# Altium footprint library streetbot.PcbLib: 55 footprints (part 2 of 4)
Each footprint in its own frame and in the unit in brackets; x right, y up, seen from the top. Pads: shape width x height; smd on the part's side, far side on the other; paste and mask are expansions set on the pad; w line width, h text height; cw(c..) or ccw(c..) is an arc to the next point about the centre after c.
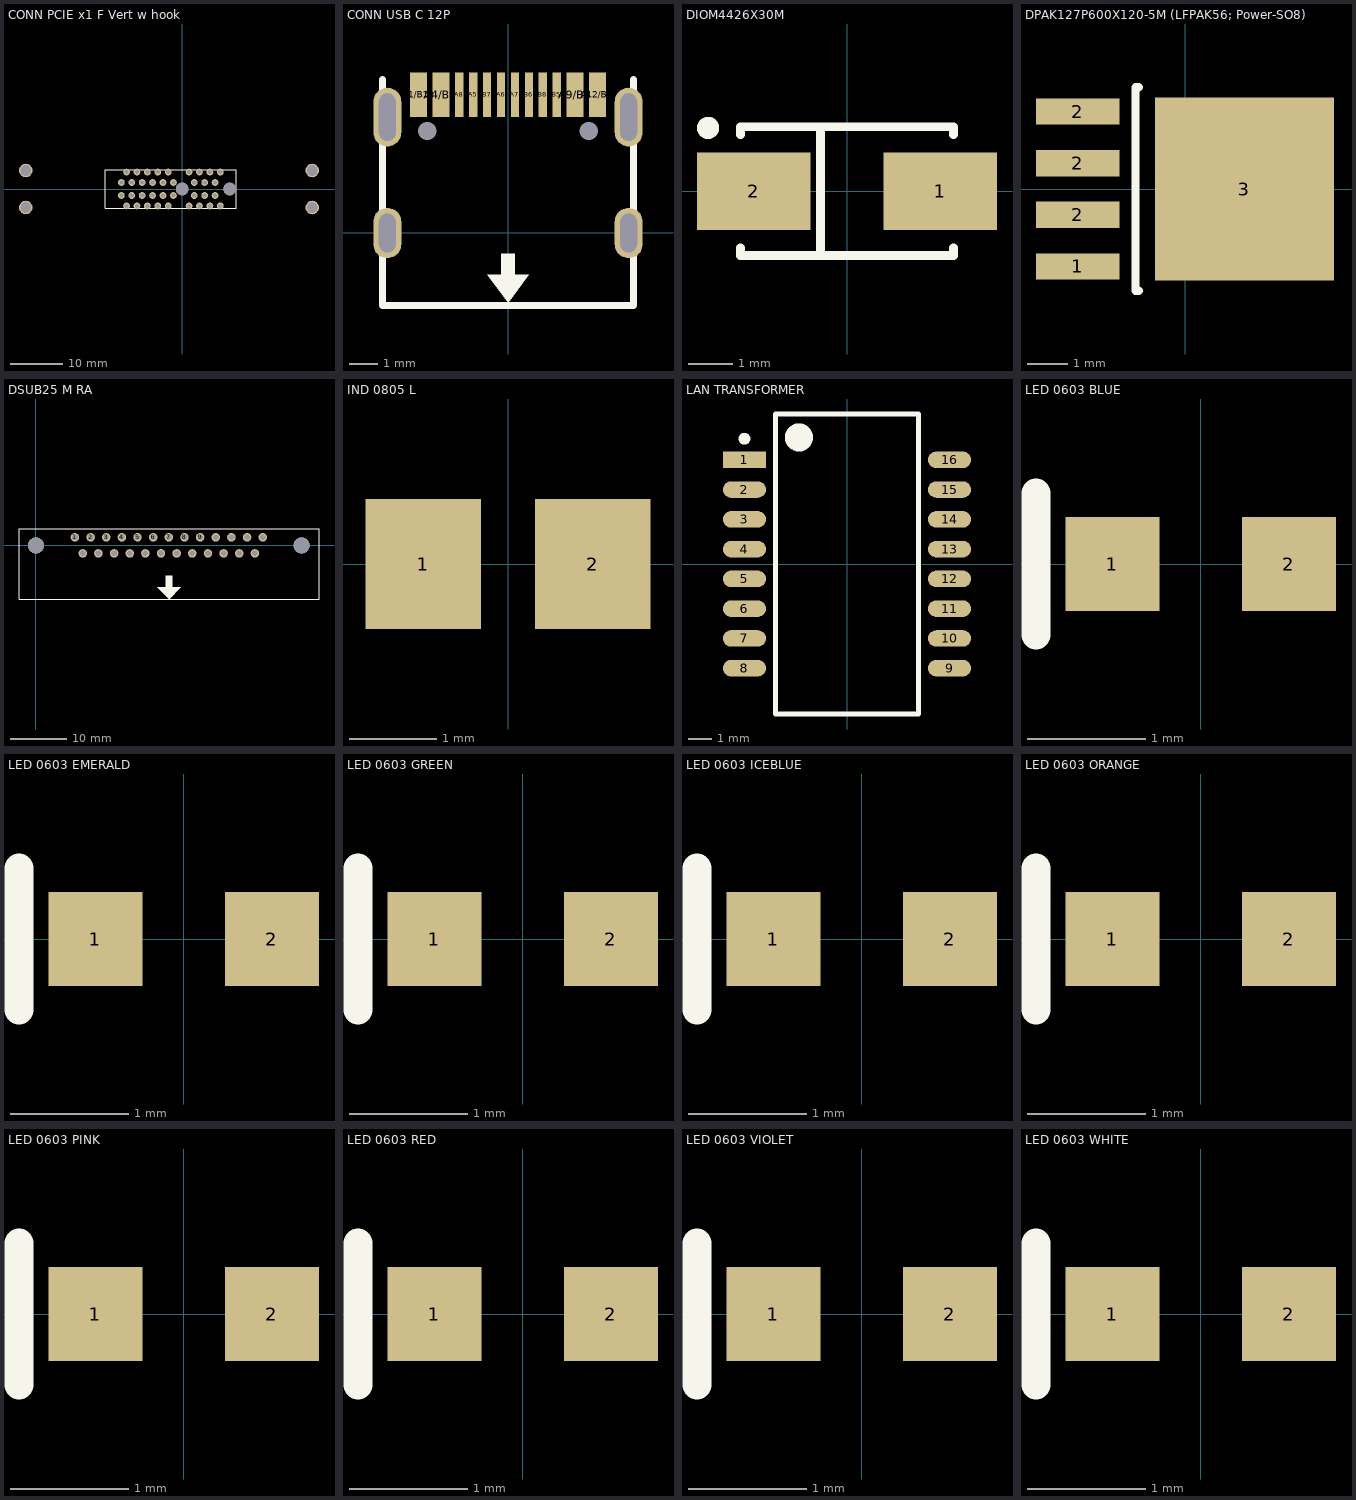
[diagram p1: the footprints below, top view; thin cyan lines are the x and y axes]

## CONN PCIE x1 F Vert w hook [mm]
pads (42):
  round 1.3 hole 0.8: A1(-11.65,1.25) A2(-10.65,3.25) A3(-9.65,1.25) A4(-8.65,3.25) A5(-7.65,1.25) A6(-6.65,3.25) A7(-5.65,1.25) A8(-4.65,3.25) A9(-3.65,1.25) A10(-2.65,3.25) A11(-1.65,1.25) A12(1.35,3.25) A13(2.35,1.25) A14(3.35,3.25) A15(4.35,1.25) A16(5.35,3.25) A17(6.35,1.25) A18(7.35,3.25) B1(-11.65,-1.25) B2(-10.65,-3.25) B3(-9.65,-1.25) B4(-8.65,-3.25) B5(-7.65,-1.25) B6(-6.65,-3.25) B7(-5.65,-1.25) B8(-4.65,-3.25) B9(-3.65,-1.25) B10(-2.65,-3.25) B11(-1.65,-1.25) B12(1.35,-3.25) B13(2.35,-1.25) B14(3.35,-3.25) B15(4.35,-1.25) B16(5.35,-3.25) B17(6.35,-1.25) B18(7.35,-3.25)
  round 2.6 hole 2.08: ""(-30,-3.555) ""(-30,3.555) ""(25,-3.555) ""(25,3.555)
  round 2.4 hole 2.4 unplated: ""(0,0) ""(9.15,0)
Top Overlay:
  lines w0.2: -14.7,-3.7 -14.7,3.7 10.4,3.7 10.4,-3.7 -14.7,-3.7
3D body "TE PCIe Express x1 (2.3mm Pins).STEP": height 11.01, standoff -4.39, extent -14.65,-5.1 10.35,3.7

## CONN USB C 12P [mm]
pads (18):
  rect 0.6x1.6 smd: A1/B12(-3.2,4.95) A4/B9(-2.4,4.95) A9/B4(2.4,4.95) A12/B1(3.2,4.95)
  rect 0.3x1.6 smd: A5(-1.25,4.95) A6(-0.25,4.95) A7(0.25,4.95) A8(-1.75,4.95) B5(1.75,4.95) B6(0.75,4.95) B7(-0.75,4.95) B8(1.25,4.95)
  oval 1x1.8 hole 0.6 slot 1.4 at 90 deg: ""(-4.32,0) ""(4.32,0)
  oval 1x2.1 hole 0.6 slot 1.7 at 90 deg: ""(-4.32,4.15) ""(4.32,4.15)
  round 0 hole 0.65 unplated: ""(-2.89,3.65) ""(2.89,3.65)
Top Overlay:
  region: 0,-2.5 -0.75,-1.5 -0.25,-1.5 -0.25,-0.75 0.25,-0.75 0.25,-1.5 0.75,-1.5
  lines w0.25: -4.5,5.5 -4.5,-2.6 4.5,-2.6 4.5,5.5
3D body "USB Type C Port (SMD Type).STEP": height 3.22, standoff -0.98, extent -4.47,-2.6 4.47,5.3

## DIOM4426X30M [mm] "Molded Diode, 2-Leads, Body 4.37x2.62mm, IPC Low Density"
height 2.95
pads (2):
  rect 2.55x1.75 smd: 1(2.1,0) 2(-2.1,0)
Top Overlay:
  circle w0.25: c-3.125,1.425 r0.125
  lines w0.2: -2.4,-1.275 -2.4,-1.45 2.4,-1.45 2.4,-1.275 ; -2.4,1.275 -2.4,1.45 2.4,1.45 2.4,1.275 ; -0.6,-1.4 -0.6,1.4
3D body "DIOM4426X30M.step": height 2.95, standoff 0, extent -2.595,-1.42 2.595,1.42

## DPAK127P600X120-5M (LFPAK56; Power-SO8) [mm] "TO, 5-Pads, Body 5.15x5.86mm (max), IPC Low Density"
height 1.2
pads (5):
  rect 2.05x0.65 smd: 1(-2.65,-1.905) 2(-2.65,-0.635) 2(-2.65,0.635) 2(-2.65,1.905)
  rect 4.4x4.5 smd: 3(1.45,0)
Top Overlay:
  lines w0.2: -1.15,-2.5 -1.225,-2.5 -1.225,2.5 -1.15,2.5
3D body "DPAK127P600X120-5M.step": height 1.35, standoff 0, extent -2.95,-2.5 3.05,2.5

## DSUB25 M RA [mm]
pads (27):
  round 1.5 hole 1: 1(6.9,1.42) 2(9.67,1.42) 3(12.44,1.42) 4(15.21,1.42) 5(17.98,1.42) 6(20.75,1.42) 7(23.52,1.42) 8(26.29,1.42) 9(29.06,1.42) 10(31.83,1.42) 11(34.6,1.42) 12(37.37,1.42) 13(40.14,1.42) 14(8.285,-1.42) 15(11.055,-1.42) 16(13.825,-1.42) 17(16.595,-1.42) 18(19.365,-1.42) 19(22.135,-1.42) 20(24.905,-1.42) 21(27.675,-1.42) 22(30.445,-1.42) 23(33.215,-1.42) 24(35.985,-1.42) 25(38.755,-1.42)
  round 2.84 hole 2.84 unplated: ""(0,0) ""(47.04,0)
Top Overlay:
  region: 23.55,-9.5 21.5,-7.45 21.5,-7.4 23,-7.4 23,-5.4 24.1,-5.4 24.1,-7.4 25.6,-7.4
  lines w0.2: -3,-9.5 50.1,-9.5 50.1,2.9 -3,2.9 -3,-9.5
3D body "sD25P13B4PA00LF.stp": height 13.46, standoff -3.69, extent -3,-17.4 50.04,3.05

## IND 0805 L [mm] "Chip Inductor, 2-Leads, Body 2.00x1.25mm, IPC Low Density"
height 1.35
pads (2):
  rect 1.32x1.49 smd: 1(-0.97,0) 2(0.97,0)
3D body "INDC2012X14M.step": height 1.35, standoff 0, extent -1.05,-0.675 1.05,0.675

## LAN TRANSFORMER [mm] "SOP, 16-Leads, Body 12.80x6.90mm, Pitch 1.27mm, IPC Low Density"
height 5.65
pads (16):
  rect 1.85x0.7 smd: 1(-4.375,4.445)
  oval 1.85x0.7 smd: 2(-4.375,3.175) 3(-4.375,1.905) 4(-4.375,0.635) 5(-4.375,-0.635) 6(-4.375,-1.905) 7(-4.375,-3.175) 8(-4.375,-4.445) 9(4.375,-4.445) 10(4.375,-3.175) 11(4.375,-1.905) 12(4.375,-0.635) 13(4.375,0.635) 14(4.375,1.905) 15(4.375,3.175) 16(4.375,4.445)
Top Overlay:
  circle w0.25: c-4.375,5.345 r0.125
  circle w0.6: c-2.05,5.4 r0.3
  lines w0.2: -3.05,-6.4 -3.05,6.4 3.05,6.4 3.05,-6.4 -3.05,-6.4
3D body "SOP127P930X565-16M.step": height 5.65, standoff 0, extent -4.65,-6.4 4.65,6.4

## LED 0603 BLUE [mm]
pads (2):
  rect 0.8x0.8 smd: 1(-0.75,0) 2(0.75,0)
Top Overlay:
  lines w0.25: -1.4,-0.6 -1.4,0.6
3D body "LED 0603 single color blue v1.step": height 0.7, standoff -0.01, extent -0.8,-0.394 0.8,0.394

## LED 0603 EMERALD [mm]
pads (2):
  rect 0.8x0.8 smd: 1(-0.75,0) 2(0.75,0)
Top Overlay:
  lines w0.25: -1.4,-0.6 -1.4,0.6
3D body "LED 0603 single color emerald v2.step": height 0.7, standoff -0.01, extent -0.8,-0.394 0.8,0.394

## LED 0603 GREEN [mm]
pads (2):
  rect 0.8x0.8 smd: 1(-0.75,0) 2(0.75,0)
Top Overlay:
  lines w0.25: -1.4,-0.6 -1.4,0.6
3D body "LED 0603 single color green v2.step": height 0.7, standoff -0.01, extent -0.8,-0.394 0.8,0.394

## LED 0603 ICEBLUE [mm]
pads (2):
  rect 0.8x0.8 smd: 1(-0.75,0) 2(0.75,0)
Top Overlay:
  lines w0.25: -1.4,-0.6 -1.4,0.6
3D body "LED 0603 single color ice blue v1.step": height 0.7, standoff -0.01, extent -0.8,-0.394 0.8,0.394

## LED 0603 ORANGE [mm]
pads (2):
  rect 0.8x0.8 smd: 1(-0.75,0) 2(0.75,0)
Top Overlay:
  lines w0.25: -1.4,-0.6 -1.4,0.6
3D body "LED 0603 single color orange v1.step": height 0.7, standoff -0.01, extent -0.8,-0.394 0.8,0.394

## LED 0603 PINK [mm]
pads (2):
  rect 0.8x0.8 smd: 1(-0.75,0) 2(0.75,0)
Top Overlay:
  lines w0.25: -1.4,-0.6 -1.4,0.6
3D body "LED 0603 single color pink v1.step": height 0.7, standoff -0.01, extent -0.8,-0.394 0.8,0.394

## LED 0603 RED [mm]
pads (2):
  rect 0.8x0.8 smd: 1(-0.75,0) 2(0.75,0)
Top Overlay:
  lines w0.25: -1.4,-0.6 -1.4,0.6
3D body "LED 0603 single color red v1.step": height 0.7, standoff -0.01, extent -0.8,-0.394 0.8,0.394

## LED 0603 VIOLET [mm]
pads (2):
  rect 0.8x0.8 smd: 1(-0.75,0) 2(0.75,0)
Top Overlay:
  lines w0.25: -1.4,-0.6 -1.4,0.6
3D body "LED 0603 single color violet v2.step": height 0.7, standoff -0.01, extent -0.8,-0.394 0.8,0.394

## LED 0603 WHITE [mm]
pads (2):
  rect 0.8x0.8 smd: 1(-0.75,0) 2(0.75,0)
Top Overlay:
  lines w0.25: -1.4,-0.6 -1.4,0.6
3D body "LED 0603 single color white v2.step": height 0.7, standoff -0.01, extent -0.8,-0.394 0.8,0.394